# Altium footprint library Discrete.PCBLIB: 128 footprints (part 4 of 8)
Each footprint in its own frame and in the unit in brackets; x right, y up, seen from the top. Pads: shape width x height; smd on the part's side, far side on the other; paste and mask are expansions set on the pad; w line width, h text height; cw(c..) or ccw(c..) is an arc to the next point about the centre after c.
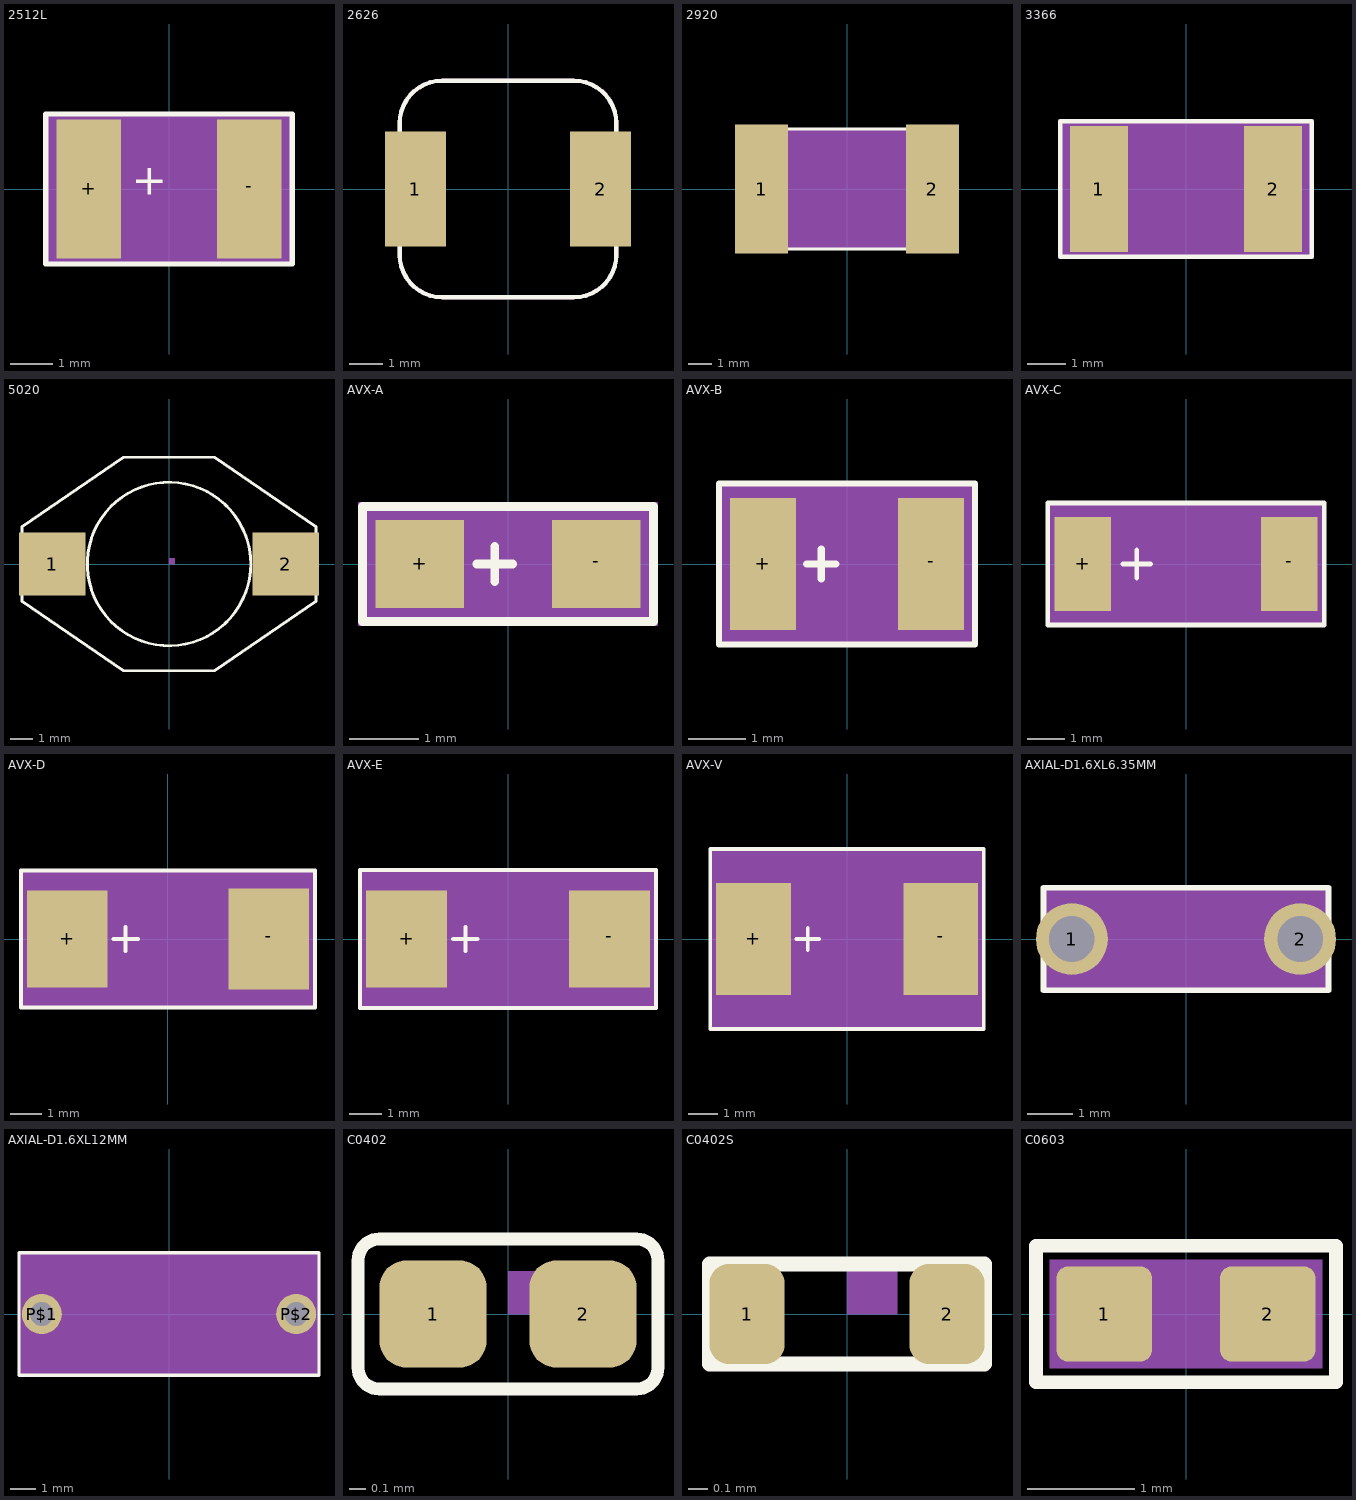
[diagram p3: the footprints below, top view; thin cyan lines are the x and y axes]

## 2512L [mil]
pads (2):
  rect 60x130 smd: +(-75,0) -(75,0)
Top Overlay:
  lines w5: -115,-70 115,-70 115,70 -115,70 -115,-70
  text "+" at -35,-15 h49.6
Mechanical 27:
  rectangle: -115,-70 115,70

## 2626 [mil]
pads (2):
  rect 72x135 smd: 1(-109,0) 2(109,0)
Top Overlay:
  lines w5: -127.5,-77.5 ccw(c-77.5,-77.5) -77.5,-127.5 77.5,-127.5 ccw(c77.5,-77.5) 127.5,-77.5 127.5,77.5 ccw(c77.5,77.5) 77.5,127.5 -77.5,127.5 ccw(c-77.5,77.5) -127.5,77.5 -127.5,-77.5
Mechanical 27:
  lines w5: -127.5,-77.5 ccw(c-77.5,-77.5) -77.5,-127.5 77.5,-127.5 ccw(c77.5,-77.5) 127.5,-77.5 127.5,77.5 ccw(c77.5,77.5) 77.5,127.5 -77.5,127.5 ccw(c-77.5,77.5) -127.5,77.5 -127.5,-77.5

## 2920 [mm]
pads (2):
  rect 2.3x5.6 smd: 1(-3.7,0) 2(3.7,0)
Top Overlay:
  lines w0.127: -3.7,-2.6 3.7,-2.6 3.7,2.6 -3.7,2.6 -3.7,-2.6
Mechanical 27:
  rectangle: -3.7,-2.6 3.7,2.6

## 3366 [mil]
pads (2):
  rect 60x130 smd: 1(-90,0) 2(90,0)
Top Overlay:
  lines w5: -130,-70 130,-70 130,70 -130,70 -130,-70
Mechanical 27:
  rectangle: -130,-70 130,70
  lines w5: -130,-70 130,-70 130,70 -130,70 -130,-70

## 5020 [mm]
pads (2):
  rect 2.92x2.79 smd: 1(-5.145,0) 2(5.145,0)
Top Overlay:
  circle w0.127: c0,0 r3.6
  lines w0.127: -6.475,-1.645 -2,-4.7 2,-4.7 6.475,-1.64 6.475,1.64 2,4.7 -2,4.7 -6.475,1.64 -6.475,-1.64
Mechanical 27:
  region: 0,0 0.254,0 0.254,0.254 0,0.254

## AVX-A [mil]
pads (2):
  rect 50x50 smd: +(-50,0) -(50,0)
Top Overlay:
  lines w5: -17.5,0 2.5,0 ; -7.5,-10 -7.5,10 ; -82.5,-32.5 82.5,-32.5 82.5,32.5 -82.5,32.5 -82.5,-32.5
Mechanical 27:
  rectangle: -85,-35 85,35

## AVX-B [mil]
pads (2):
  rect 45x90 smd: +(-57.5,0) -(57.5,0)
Top Overlay:
  lines w4: -87.5,-55 87.5,-55 87.5,55 -87.5,55 -87.5,-55
  lines w5: -27.5,0 -7.5,0 ; -17.5,-10 -17.5,10
Mechanical 27:
  rectangle: -87.5,-55 87.5,55

## AVX-C [mil]
pads (2):
  rect 60x100 smd: +(-110,0) -(110,0)
Top Overlay:
  lines w5: -67.5,0 -37.5,0 ; -52.5,-15 -52.5,15 ; -147.5,-65 147.5,-65 147.5,65 -147.5,65 -147.5,-65
Mechanical 27:
  rectangle: -147.5,-65 147.5,65

## AVX-D [mil]
pads (2):
  rect 100x120 smd: +(-125,0)
  rect 100x125 smd: -(125,0)
Top Overlay:
  lines w5: -67.5,0 -37.5,0 ; -52.5,-15 -52.5,15 ; -182.5,-85 182.5,-85 182.5,85 -182.5,85 -182.5,-85
Mechanical 27:
  rectangle: -182.5,-85 182.5,85

## AVX-E [mil]
pads (2):
  rect 100x120 smd: +(-125,0) -(125,0)
Top Overlay:
  lines w5: -67.5,0 -37.5,0 ; -52.5,-15 -52.5,15 ; -182.5,-85 182.5,-85 182.5,85 -182.5,85 -182.5,-85
Mechanical 27:
  rectangle: -182.5,-85 182.5,85

## AVX-V [mil]
pads (2):
  rect 100x150 smd: +(-125,0) -(125,0)
Top Overlay:
  lines w5: -67.5,0 -37.5,0 ; -52.5,-15 -52.5,15 ; -182.5,-120 182.5,-120 182.5,120 -182.5,120 -182.5,-120
Mechanical 27:
  rectangle: -182.5,-120 182.5,120

## AXIAL-D1.6XL6.35MM [mil]
pads (2):
  round 62.99 hole 40: 1(-100,0) 2(100,0)
Top Overlay:
  lines w5: -125,-45 125,-45 125,45 -125,45 -125,-45
Mechanical 27:
  rectangle: -125,-45 125,45

## AXIAL-D1.6XL12MM [mil]
pads (2):
  round 62.99 hole 37.4: P$1(-200.39,0) P$2(200.39,0)
Top Overlay:
  lines w5: -236.22,-96.46 236.22,-96.46 236.22,96.46 -236.22,96.46 -236.22,-96.46
Mechanical 27:
  rectangle: -235,-95 235,95

## C0402 [mil]
pads (2):
  rrect50% 25x25 smd: 1(-17.5,0) 2(17.5,0)
Top Overlay:
  lines w3: -35,-12.5 ccw(c-30,-12.5) -30,-17.5 30,-17.5 ccw(c30,-12.5) 35,-12.5 35,12.5 ccw(c30,12.5) 30,17.5 -30,17.5 ccw(c-30,12.5) -35,12.5 -35,-12.5
Mechanical 16:
  region: 0,0 10,0 10,10 0,10

## C0402S [mil]
pads (2):
  rrect50% 15x20 smd: 1(-20,0) 2(20,0)
Top Overlay:
  lines w3: -27.5,-10 27.5,-10 27.5,10 -27.5,10 -27.5,-10
Mechanical 16:
  region: 0,0 10,0 10,10 0,10

## C0603 [mil]
pads (2):
  rrect25% 35x35 smd: 1(-30,0) 2(30,0)
Top Overlay:
  lines w5: -55,-25 55,-25 55,25 -55,25 -55,-25
Mechanical 27:
  rectangle: -50,-20 50,20